# EAGLE library part EXB-18V103JX (library Resistor Array)
RES ARRAY 4 RES 10K OHM 0502 Manufacturer's datasheet <https://industrial.panasonic.com/cdbs/www-data/pdf/AOC0000/AOC0000C14.pdf>
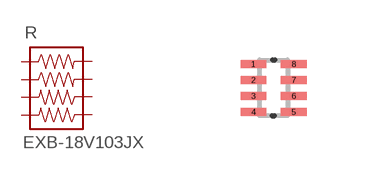
[diagram p10: symbol with the pads of EXB-18V103JX; footprint EXB-18V103JX]

Designator prefix R

## EXB-18V103JX (CREATED_BY: PCBLayout.com; DIGIEKEY_PARTNO: Y6103TR-ND; MANUFACTURER: Panasonic Electronic Components; MPN: EXB-18V103JX; PACKAGE: 0502)  [EXB-18V103JX]
1  1  pas
2  2  pas
3  3  pas
4  4  pas
5  5  pas
6  6  pas
7  7  pas
8  8  pas

## Footprint EXB-18V103JX (pad centres in mm)
8-Chiparray 2-Side Flat, 0.40 mm pitch, 1.40 X 0.65 X 0.45 mm body 8-pin Chiparray 2-Side Flat package with 0.40 mm pitch with body size 1.40 X 0.65 X 0.45 mm
smd 0.64 x 0.21: 1 -0.505,0.6; 2 -0.505,0.2; 3 -0.505,-0.2; 4 -0.505,-0.6; 5 0.505,-0.6; 6 0.505,-0.2; 7 0.505,0.2; 8 0.505,0.6